# EAGLE library part XG4A-10 (library work)
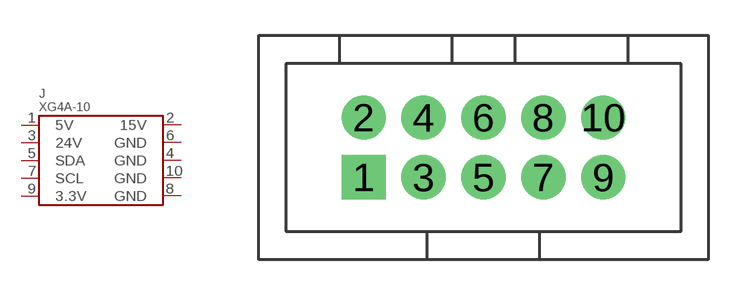
[diagram p63: symbol with the pads of M05X2_SHROUD; footprint M05X2_SHROUD]

Designator prefix J

## XG4A-10  [M05X2_SHROUD]
1  5V
2  15V
3  24V
4  GND
5  SDA
6  GND
7  SCL
8  GND
9  3.3V
10  GND

## Footprint M05X2_SHROUD (pad centres in mm)
drill 1.016 pad 1.88 square: 1 -5.08,-1.27
drill 1.016 pad 1.88: 2 -5.08,1.27; 3 -2.54,-1.27; 4 -2.54,1.27; 5 0,-1.27; 6 0,1.27; 7 2.54,-1.27; 8 2.54,1.27; 9 5.08,-1.27; 10 5.08,1.27